# EAGLE library part FASTRAX-UP501 (library jcole)
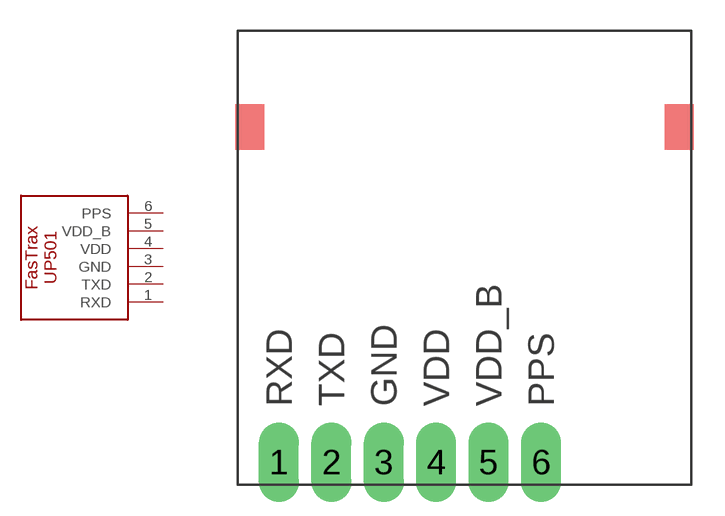
[diagram p7: symbol with the pads of FASTRAX-UP501; footprint FASTRAX-UP501]

Designator prefix -

## FASTRAX-UP501  [FASTRAX-UP501]
1  RXD  in
2  TXD  out
3  GND  pwr
4  VDD  pwr
5  VDD_B  pwr
6  PPS  out

## Footprint FASTRAX-UP501 (pad centres in mm)
drill 1 pad 1.93 long: 1 -9.99,1.1; 2 -7.45,1.1; 3 -4.91,1.1; 4 -2.37,1.1; 5 0.17,1.1; 6 2.71,1.1